# EAGLE library part RXM-XXX-LR (library linx_lr)
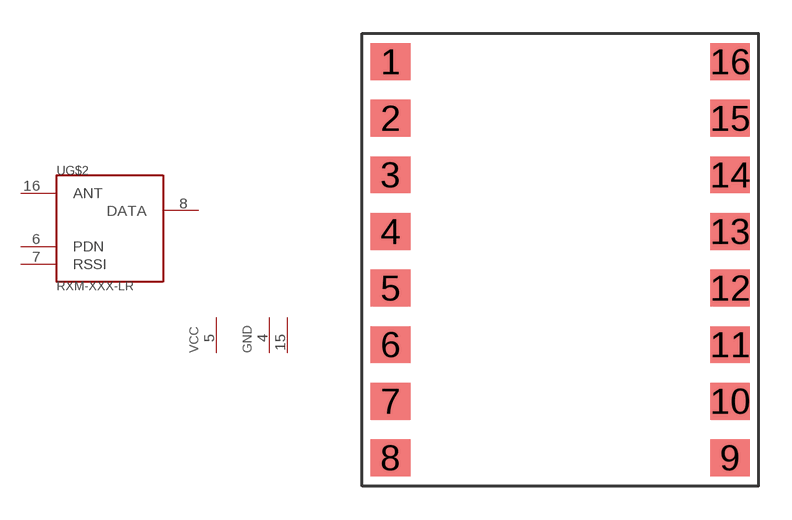
[diagram p1: symbol with the pads of RXM-XXX-LR; footprint RXM-XXX-LR]

Designator prefix -; gates G$1=1VCC2GND G$2=RXM-XXX-LR

## RXM-XXX-LR  [RXM-XXX-LR]
4  G$1:GND  pwr
5  G$1:VCC  pwr
6  G$2:PDN
7  G$2:RSSI
8  G$2:DATA
15  G$1:GND  pwr
16  G$2:ANT

## Footprint RXM-XXX-LR (pad centres in mm)
smd 1.778 x 1.651: 1 -7.62,8.89; 2 -7.62,6.35; 3 -7.62,3.81; 4 -7.62,1.27; 5 -7.62,-1.27; 6 -7.62,-3.81; 7 -7.62,-6.35; 8 -7.62,-8.89; 9 7.62,-8.89; 10 7.62,-6.35; 11 7.62,-3.81; 12 7.62,-1.27; 13 7.62,1.27; 14 7.62,3.81; 15 7.62,6.35; 16 7.62,8.89